# Altium schematic symbol library TEST_PT_SMT.SchLib: 1 symbol
Pins are listed as number, name and electrical type; pins without a type are passive.

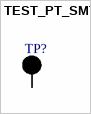
[diagram p0: symbol TEST_PT_SMT]

## TEST_PT_SMT
designator TP?  (value not drawn)
pins: 0